# EAGLE library part SI4410DY (library microchip-nuno)
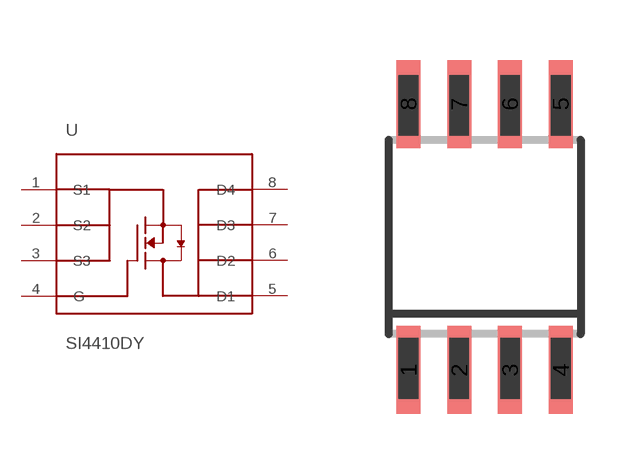
[diagram p3: symbol with the pads of SO-08M; footprint SO-08M]

Designator prefix -

## SI4410DY  [SO-08M]
1  S1  pas
2  S2  pas
3  S3  pas
4  G  pas
5  D1  pas
6  D2  pas
7  D3  pas
8  D4  pas

## Footprint SO-08M (pad centres in mm)
smd 0.6 x 2.2: 1 -8.255,-3.33; 2 -6.985,-3.33; 3 -5.715,-3.33; 4 -4.445,-3.33; 5 -4.445,3.33; 6 -5.715,3.33; 7 -6.985,3.33; 8 -8.255,3.33